# Altium integrated library Ai-Thinker ESP8266 Series.IntLib: 1 symbol
Pins are listed as number, name and electrical type; pins without a type are passive.

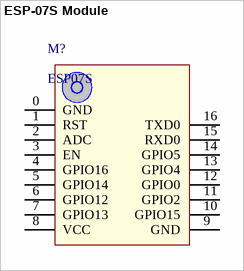
[diagram p0: symbol ESP-07S Module]

## ESP-07S Module
designator M?, comment ESP07S
ESP-07S Wi-Fi Module
footprint ESP-07S Module
pins: 0 GND, 1 RST, 2 ADC, 3 EN, 4 GPIO16, 5 GPIO14, 6 GPIO12, 7 GPIO13, 8 VCC, 9 GND, 10 GPIO15, 11 GPIO2, 12 GPIO0, 13 GPIO4, 14 GPIO5, 15 RXD0, 16 TXD0